# Altium footprint library 81801_1.PcbLib: 23 footprints (part 2 of 2)
Each footprint in its own frame and in the unit in brackets; x right, y up, seen from the top. Pads: shape width x height; smd on the part's side, far side on the other; paste and mask are expansions set on the pad; w line width, h text height; cw(c..) or ccw(c..) is an arc to the next point about the centre after c.
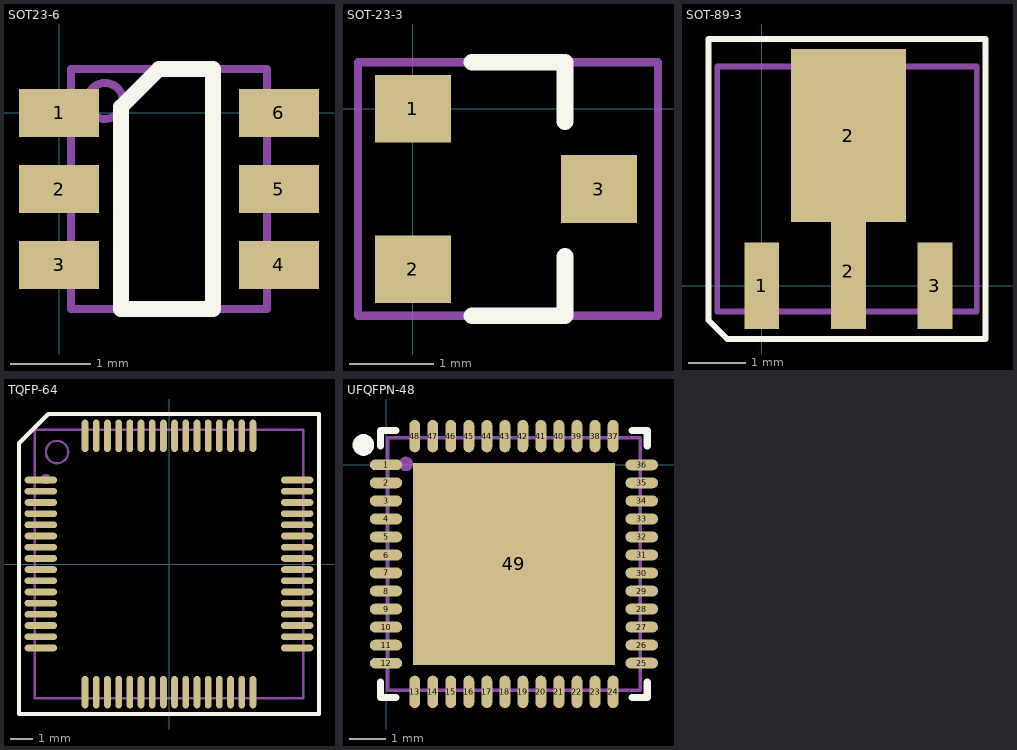
[diagram p1: the footprints below, top view; thin cyan lines are the x and y axes]

## SOT23-6 [mm]
height 1.2
pads (6):
  rect 1x0.6 smd: 1(0,0) 2(0,-0.95) 3(0,-1.9) 4(2.75,-1.9) 5(2.75,-0.95) 6(2.75,0)
Top Overlay:
  lines w0.2: 0.775,-2.45 1.925,-2.45 1.925,0.55 1.25,0.55 0.775,0.075 0.775,-2.45
Mechanical 29:
  circle w0.1: c0.575,0.15 r0.225
  lines w0.1: 0.15,-2.45 0.15,0.55 2.6,0.55 2.6,-2.45 0.15,-2.45
  text "'.Designator'" at 1.2,0.05 h0.39
3D body "User Library-SOT-23-6.STEP": height 1.09, standoff 0, extent 0.128,-2.344 2.554,0.45

## SOT-23-3 [mm]
height 1
pads (3):
  rect 0.9x0.8 smd: 1(0,0) 2(0,-1.9) 3(2.2,-0.95)
Top Overlay:
  lines w0.2: 0.7,-2.45 1.8,-2.45 1.8,-1.75 ; 0.7,0.55 1.8,0.55 1.8,-0.15
Mechanical 29:
  lines w0.1: -0.65,-2.45 2.9,-2.45 2.9,0.55 -0.65,0.55 -0.65,-2.45
  text "'.Designator'" at 0.75,0.325 h0.7
3D body "SOT-23-3.step": height 1.3, standoff 0, extent -0.3,-2.4 2.5,0.5

## SOT-89-3 [mm]
height 1
pads (4):
  rect 0.6x1.5 smd: 1(0,0) 3(3,0)
  rect 0.6x2 smd: 2(1.5,0.25)
  rect 2x3 smd: 2(1.5,2.6)
Top Overlay:
  lines w0.1: -0.925,-0.6 -0.6,-0.925 3.875,-0.925 3.875,4.275 -0.925,4.275 -0.925,-0.6
Mechanical 29:
  lines w0.1: -0.775,-0.45 3.725,-0.45 3.725,3.8 -0.775,3.8 -0.775,-0.45
  text "'.Designator'" at -0.6,1.233 h0.7
3D body "User Library-SOT89-3.STEP": height 1.54, standoff 0, extent -0.775,-0.45 3.725,3.8

## TQFP-64 [mm] "TQFP-64 Package , 64-Leades, 10.00 x 10.00 mm Body , 0.5 mm Pitch"
height 1.2
pads (64):
  oval 1.45x0.3 smd: 1(-5.725,3.75) 2(-5.725,3.25) 3(-5.725,2.75) 4(-5.725,2.25) 5(-5.725,1.75) 6(-5.725,1.25) 7(-5.725,0.75) 8(-5.725,0.25) 9(-5.725,-0.25) 10(-5.725,-0.75) 11(-5.725,-1.25) 12(-5.725,-1.75) 13(-5.725,-2.25) 14(-5.725,-2.75) 15(-5.725,-3.25) 16(-5.725,-3.75) 33(5.725,-3.75) 34(5.725,-3.25) 35(5.725,-2.75) 36(5.725,-2.25) 37(5.725,-1.75) 38(5.725,-1.25) 39(5.725,-0.75) 40(5.725,-0.25) 41(5.725,0.25) 42(5.725,0.75) 43(5.725,1.25) 44(5.725,1.75) 45(5.725,2.25) 46(5.725,2.75) 47(5.725,3.25) 48(5.725,3.75)
  oval 0.3x1.45 smd: 17(-3.75,-5.725) 18(-3.25,-5.725) 19(-2.75,-5.725) 20(-2.25,-5.725) 21(-1.75,-5.725) 22(-1.25,-5.725) 23(-0.75,-5.725) 24(-0.25,-5.725) 25(0.25,-5.725) 26(0.75,-5.725) 27(1.25,-5.725) 28(1.75,-5.725) 29(2.25,-5.725) 30(2.75,-5.725) 31(3.25,-5.725) 32(3.75,-5.725) 49(3.75,5.725) 50(3.25,5.725) 51(2.75,5.725) 52(2.25,5.725) 53(1.75,5.725) 54(1.25,5.725) 55(0.75,5.725) 56(0.25,5.725) 57(-0.25,5.725) 58(-0.75,5.725) 59(-1.25,5.725) 60(-1.75,5.725) 61(-2.25,5.725) 62(-2.75,5.725) 63(-3.25,5.725) 64(-3.75,5.725)
Top Overlay:
  lines w0.2: -6.7,-6.7 6.7,-6.7 6.7,6.7 -5.4,6.7 -6.7,5.4 -6.7,-6.7
Mechanical 29:
  circle w0.1: c-5,5 r0.5
  circle w0.254: c-5.5,3.8 r0.1
  lines w0.1: -6,-6 6,-6 6,6 -6,6 -6,-6
  text "'.Designator'" at -4,-0.767 h0.7
3D body "TI - PGA-64 - PAG0064A v2.step": height 1.2, standoff 0, extent -6,-6 6,6

## UFQFPN-48 [mm]
pads (49):
  oval 0.9x0.3 smd: 1(0,0) 2(0,-0.5) 3(0,-1.001) 4(0,-1.501) 5(0,-2.002) 6(0,-2.502) 7(0,-3) 8(0,-3.5) 9(0,-4) 10(0,-4.501) 11(0,-5.001) 12(0,-5.502) 25(7.095,-5.501) 26(7.095,-5.001) 27(7.095,-4.501) 28(7.095,-4.001) 29(7.095,-3.501) 30(7.095,-3.001) 31(7.095,-2.501) 32(7.095,-2.001) 33(7.095,-1.501) 34(7.095,-1.001) 35(7.095,-0.501) 36(7.095,-0.001)
  oval 0.3x0.9 smd: 13(0.796,-6.298) 14(1.297,-6.298) 15(1.797,-6.298) 16(2.298,-6.298) 17(2.798,-6.298) 18(3.298,-6.298) 19(3.796,-6.298) 20(4.297,-6.298) 21(4.797,-6.298) 22(5.297,-6.298) 23(5.798,-6.298) 24(6.298,-6.298) 37(6.298,0.796) 38(5.798,0.796) 39(5.297,0.796) 40(4.797,0.796) 41(4.297,0.796) 42(3.796,0.796) 43(3.298,0.796) 44(2.798,0.796) 45(2.298,0.796) 46(1.797,0.796) 47(1.297,0.796) 48(0.796,0.796)
  rect 5.6x5.6 smd paste-100: 49(3.547,-2.751)
Top Overlay:
  lines w0.2: -0.153,-6.026 -0.153,-6.451 0.272,-6.451 ; -0.153,0.524 -0.153,0.949 0.272,0.949 ; 6.822,-6.451 7.247,-6.451 7.247,-6.026 ; 6.822,0.949 7.247,0.949 7.247,0.524
  lines w0.3: -0.629,0.702 ccw(c-0.627,0.552) -0.626,0.702
Top Paste:
  region: 1.307,-0.511 5.787,-0.511 5.787,-4.991 1.307,-4.991
Mechanical 29:
  circle w0.2: c0.55,0.025 r0.1
  lines w0.1: 0.05,-6.25 0.05,0.75 7.05,0.75 7.05,-6.25 0.05,-6.25
  text "'.Designator'" at 0.175,-1.742 h0.7

## Xpin80 [mm]
via 0,0 diameter 1.2 hole 0.8

## Xpin100 [mm]
via 0,0 diameter 1.4 hole 1